# Altium footprint library PKMCS0909E4000-R1.PcbLib: 1 footprints
Each footprint in its own frame and in the unit in brackets; x right, y up, seen from the top. Pads: shape width x height; smd on the part's side, far side on the other; paste and mask are expansions set on the pad; w line width, h text height; cw(c..) or ccw(c..) is an arc to the next point about the centre after c.
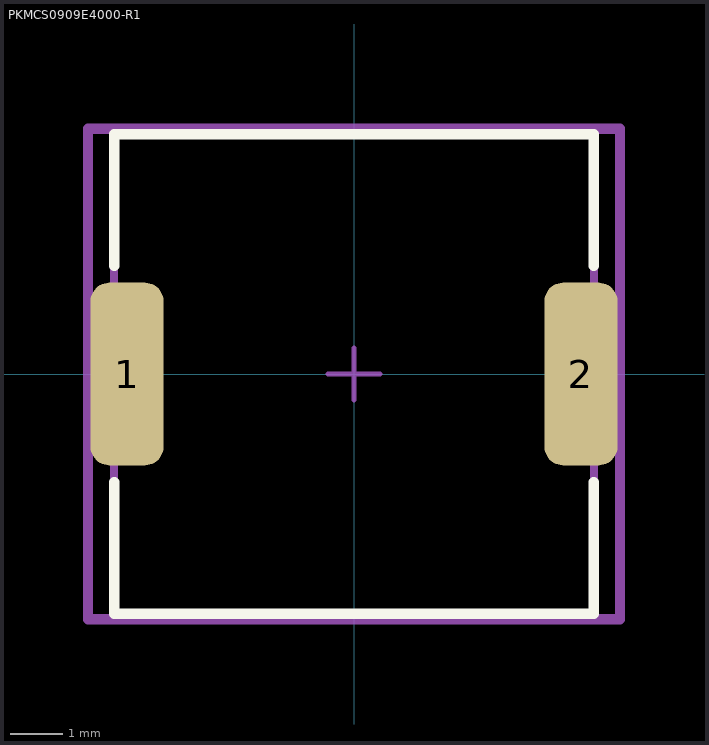
[diagram p0: the footprint, top view; thin cyan lines are the x and y axes]

## PKMCS0909E4000-R1 [mm]
pads (2):
  rrect50% 1.4x3.5 smd paste+0 mask+0.05: 1(-4.35,0) 2(4.35,0)
Top Overlay:
  lines w0.2: -4.6,-2.075 -4.6,-4.6 4.6,-4.6 4.6,-2.075 ; -4.6,2.075 -4.6,4.6 4.6,4.6 4.6,2.075
Top Assembly:
  lines w0.15: -4.6,-4.6 4.6,-4.6 4.6,4.6 -4.6,4.6 -4.6,-4.6
Top Courtyard:
  lines w0.1: -0.5,0 0.5,0 ; 0,-0.5 0,0.5
  lines w0.2: -5.1,-4.7 5.1,-4.7 ; -5.1,-4.7 -5.1,4.7 ; -5.1,-4.7 5.1,-4.7 ; -5.1,-4.7 -5.1,4.7 ; -5.1,4.7 5.1,4.7 ; -5.1,4.7 5.1,4.7 ; 5.1,-4.7 5.1,4.7 ; 5.1,-4.7 5.1,4.7
3D body "Speak_Murata_PKMCS0909E4000-R1_eec.STEP": height 1.9, standoff 0, extent -4.5,-4.5 4.5,4.5